# Altium footprint library LED3MM.PcbLib: 1 footprints
Each footprint in its own frame and in the unit in brackets; x right, y up, seen from the top. Pads: shape width x height; smd on the part's side, far side on the other; paste and mask are expansions set on the pad; w line width, h text height; cw(c..) or ccw(c..) is an arc to the next point about the centre after c.
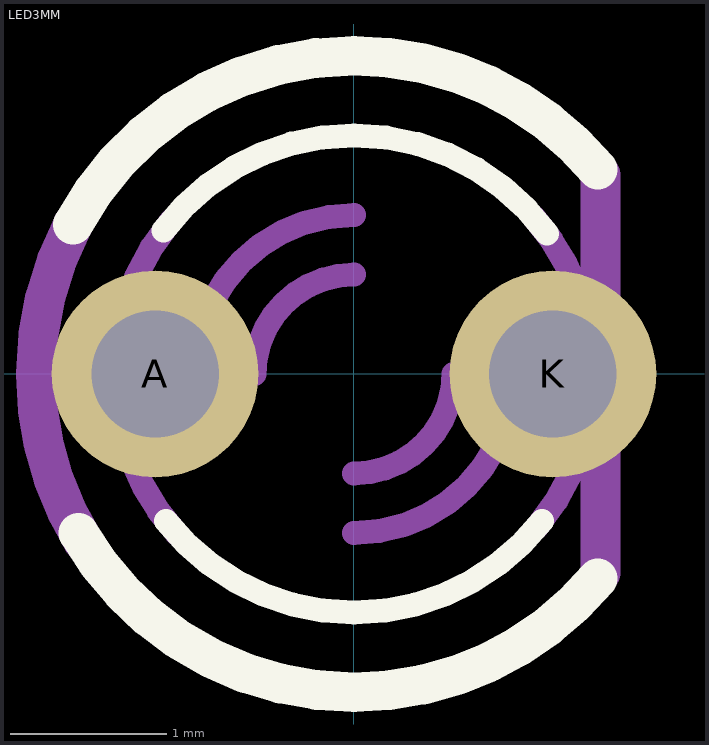
[diagram p0: the footprint, top view; thin cyan lines are the x and y axes]

## LED3MM [mil]
pads (2):
  round 52 hole 32: A(-50,0) K(50,0)
Top Overlay:
  lines w6: -47.92,36.11 cw(c0,0) 0,60 cw(c0,0) 48.54,35.27 ; -47.28,-36.94 ccw(c0,0) 0,-60 ccw(c0,0) 47.28,-36.94
  lines w10: -70.63,37.56 cw(c0,0) 0,80 cw(c0,0) 61.28,51.42 ; -69.28,-40 ccw(c0,0) 0,-80 ccw(c0,0) 61.29,-51.42
Mechanical 13:
  lines w6: -45.96,38.57 ccw(c0,0) -60,0 ccw(c0,0) -44.59,-40.15 ; -40,0 cw(c0,0) 0,40 ; -25,0 cw(c0,0) 0,25 ; 0,-40 ccw(c0,0) 40,0 ; 0,-25 ccw(c0,0) 25,0 ; 45.28,39.36 cw(c0,0) 60,0 cw(c0,0) 45.96,-38.57
  lines w10: -70.64,37.56 ccw(c0,0) -80,0 ccw(c0,0) -67.84,-42.4 ; 62,-50 62,50
3D body "step_temp.STEP": height 240.16, standoff -1133.86, extent -62.99,-62.99 62.99,62.99